# EAGLE library part SN55HVD251 (library hsk_2012)
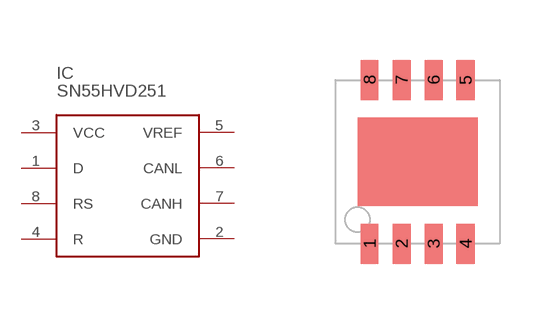
[diagram p54: symbol with the pads of PWSON-N8; footprint PWSON-N8]

Designator prefix IC

## SN55HVD251  [PWSON-N8]
1  D
2  GND
3  VCC
4  R
5  VREF
6  CANL
7  CANH
8  RS

## Footprint PWSON-N8 (pad centres in mm)
smd 0.45 x 1: 1 -1.2,-2.05; 2 -0.4,-2.05; 3 0.4,-2.05; 4 1.2,-2.05; 5 1.2,2.05; 6 0.4,2.05; 7 -0.4,2.05; 8 -1.2,2.05